# EAGLE library part GPS_IT430 (library Tari)
Low-power 48 channel GPS module. SIRFStar IV-based module with UART, SPI and I2C interfaces. Low-voltage (1.8V) supply, 3.6V tolerant I/O.
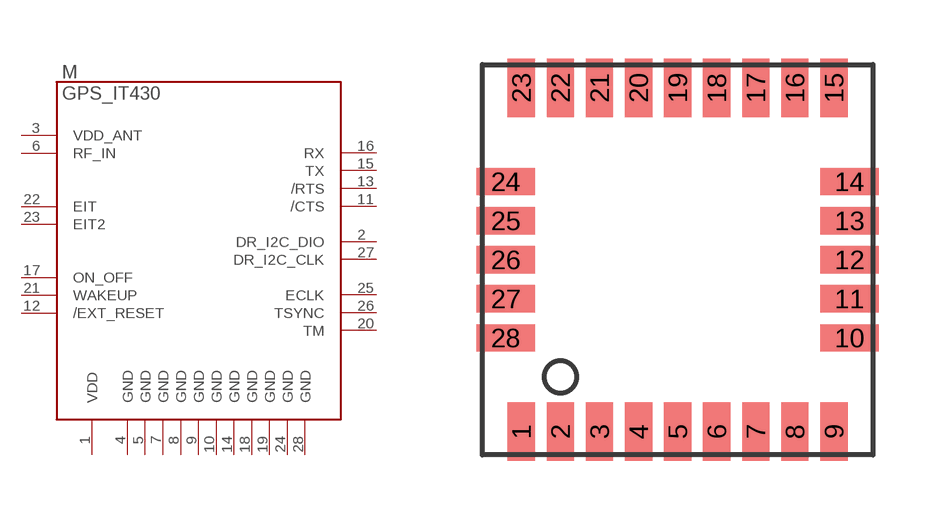
[diagram p1: symbol with the pads of FASTRAX_IT430; footprint FASTRAX_IT430]

Designator prefix M

## GPS_IT430  [FASTRAX_IT430]
1  VDD  pwr
2  DR_I2C_DIO
3  VDD_ANT  pwr
4  GND  pwr
5  GND  pwr
6  RF_IN  in
7  GND  pwr
8  GND  pwr
9  GND  pwr
10  GND  pwr
11  /CTS  in
12  /EXT_RESET  in
13  /RTS  in
14  GND  pwr
15  TX  in
16  RX  in
17  ON_OFF  in
18  GND  pwr
19  GND  pwr
20  TM  in
21  WAKEUP  in
22  EIT  in
23  EIT2  in
24  GND  pwr
25  ECLK  in
26  TSYNC  in
27  DR_I2C_CLK  in
28  GND  pwr

## Footprint FASTRAX_IT430 (pad centres in mm)
Fastrax IT430 GPS module.
smd 0.7 x 1.5: 1 -4,-4.4; 2 -3,-4.4; 3 -2,-4.4; 4 -1,-4.4; 5 0,-4.4; 6 1,-4.4; 7 2,-4.4; 8 3,-4.4; 9 4,-4.4; 15 4,4.4; 16 3,4.4; 17 2,4.4; 18 1,4.4; 19 0,4.4; 20 -1,4.4; 21 -2,4.4; 22 -3,4.4; 23 -4,4.4
smd 1.5 x 0.7: 10 4.4,-2; 11 4.4,-1; 12 4.4,0; 13 4.4,1; 14 4.4,2; 24 -4.4,2; 25 -4.4,1; 26 -4.4,0; 27 -4.4,-1; 28 -4.4,-2